# EAGLE library part CONN_M2_MKEY_67P (library GPLIB_CONN)
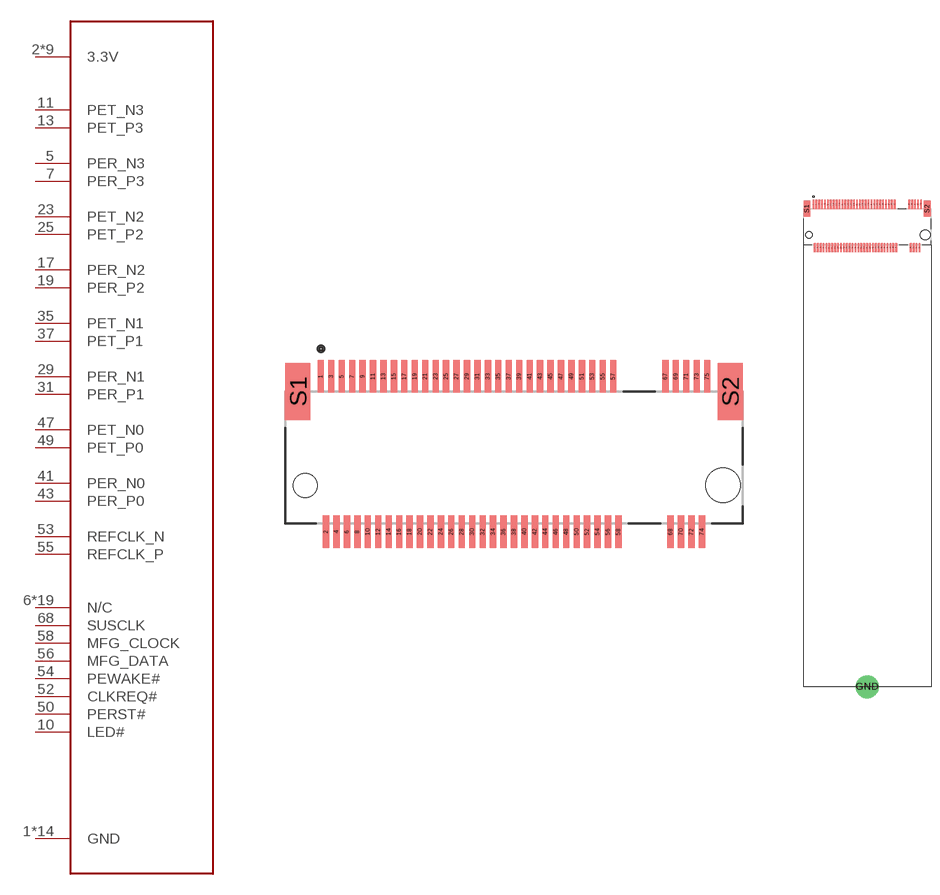
[diagram p42: symbol with the pads of CONN_M2_MKEY_67P_0.5MM_SM_RA_JAE_SM3ZS067U410ABR1000; footprints CONN_M2_MKEY_67P_0.5MM_SM_RA_JAE_SM3ZS067U410ABR1000, CONN_M2_MKEY_67P_0.5MM_SM_RA_JAE_SM3ZS067U410ABR1000_2280]

Designator prefix J

## CONN_M2_MKEY_67P_SM3ZS067U410AMR1000  [CONN_M2_MKEY_67P_0.5MM_SM_RA_JAE_SM3ZS067U410ABR1000]
1  GND  pwr
2  3.3V  pwr
3  GND  pwr
4  3.3V  pwr
5  PER_N3
6  N/C  nc
7  PER_P3
8  N/C  nc
9  GND  pwr
10  LED#
11  PET_N3
12  3.3V  pwr
13  PET_P3
14  3.3V  pwr
15  GND  pwr
16  3.3V  pwr
17  PER_N2
18  3.3V  pwr
19  PER_P2
20  N/C  nc
21  GND  pwr
22  N/C  nc
23  PET_N2
24  N/C  nc
25  PET_P2
26  N/C  nc
27  GND  pwr
28  N/C  nc
29  PER_N1
30  N/C  nc
31  PER_P1
32  N/C  nc
33  GND  pwr
34  N/C  nc
35  PET_N1
36  N/C  nc
37  PET_P1
38  N/C  nc
39  GND  pwr
40  N/C  nc
41  PER_N0
42  N/C  nc
43  PER_P0
44  N/C  nc
45  GND  pwr
46  N/C  nc
47  PET_N0
48  N/C  nc
49  PET_P0
50  PERST#
51  GND  pwr
52  CLKREQ#
53  REFCLK_N
54  PEWAKE#
55  REFCLK_P
56  MFG_DATA
57  GND  pwr
58  MFG_CLOCK
67  N/C  nc
68  SUSCLK
69  N/C  nc
70  3.3V  pwr
71  GND  pwr
72  3.3V  pwr
73  GND  pwr
74  3.3V  pwr
75  GND  pwr

## CONN_M2_MKEY_67P_SM3ZS067U410AMR1000_2280  [CONN_M2_MKEY_67P_0.5MM_SM_RA_JAE_SM3ZS067U410ABR1000_2280]
Pads as for CONN_M2_MKEY_67P_0.5MM_SM_RA_JAE_SM3ZS067U410ABR1000

## CONN_M2_MKEY_67P_SM3ZS067U410AMR1000_2230  [CONN_M2_MKEY_67P_0.5MM_SM_RA_JAE_SM3ZS067U410ABR1000_2230]
Pads as for CONN_M2_MKEY_67P_0.5MM_SM_RA_JAE_SM3ZS067U410ABR1000

## Footprint CONN_M2_MKEY_67P_0.5MM_SM_RA_JAE_SM3ZS067U410ABR1000 (pad centres in mm)
smd 0.3 x 1.55: 1 -9.25,3.475; 2 -9,-3.975; 3 -8.75,3.475; 4 -8.5,-3.975; 5 -8.25,3.475; 6 -8,-3.975; 7 -7.75,3.475; 8 -7.5,-3.975; 9 -7.25,3.475; 10 -7,-3.975; 11 -6.75,3.475; 12 -6.5,-3.975; 13 -6.25,3.475; 14 -6,-3.975; 15 -5.75,3.475; 16 -5.5,-3.975; 17 -5.25,3.475; 18 -5,-3.975; 19 -4.75,3.475; 20 -4.5,-3.975; 21 -4.25,3.475; 22 -4,-3.975; 23 -3.75,3.475; 24 -3.5,-3.975; 25 -3.25,3.475; 26 -3,-3.975; 27 -2.75,3.475; 28 -2.5,-3.975; 29 -2.25,3.475; 30 -2,-3.975; 31 -1.75,3.475; 32 -1.5,-3.975; 33 -1.25,3.475; 34 -1,-3.975; 35 -0.75,3.475; 36 -0.5,-3.975; 37 -0.25,3.475; 38 0,-3.975; 39 0.25,3.475; 40 0.5,-3.975; 41 0.75,3.475; 42 1,-3.975; 43 1.25,3.475; 44 1.5,-3.975; 45 1.75,3.475; 46 2,-3.975; 47 2.25,3.475; 48 2.5,-3.975; 49 2.75,3.475; 50 3,-3.975; 51 3.25,3.475; 52 3.5,-3.975; 53 3.75,3.475; 54 4,-3.975; 55 4.25,3.475; 56 4.5,-3.975; 57 4.75,3.475; 58 5,-3.975; 67 7.25,3.475; 68 7.5,-3.975; 69 7.75,3.475; 70 8,-3.975; 71 8.25,3.475; 72 8.5,-3.975; 73 8.75,3.475; 74 9,-3.975; 75 9.25,3.475
smd 1.2 x 2.75: S1 -10.35,2.75; S2 10.35,2.75
hole 1.15 at -10,-1.75
hole 1.65 at 10,-1.75

## Footprint CONN_M2_MKEY_67P_0.5MM_SM_RA_JAE_SM3ZS067U410ABR1000_2280 (pad centres in mm)
smd 0.3 x 1.55: 1 -9.25,3.475; 2 -9,-3.975; 3 -8.75,3.475; 4 -8.5,-3.975; 5 -8.25,3.475; 6 -8,-3.975; 7 -7.75,3.475; 8 -7.5,-3.975; 9 -7.25,3.475; 10 -7,-3.975; 11 -6.75,3.475; 12 -6.5,-3.975; 13 -6.25,3.475; 14 -6,-3.975; 15 -5.75,3.475; 16 -5.5,-3.975; 17 -5.25,3.475; 18 -5,-3.975; 19 -4.75,3.475; 20 -4.5,-3.975; 21 -4.25,3.475; 22 -4,-3.975; 23 -3.75,3.475; 24 -3.5,-3.975; 25 -3.25,3.475; 26 -3,-3.975; 27 -2.75,3.475; 28 -2.5,-3.975; 29 -2.25,3.475; 30 -2,-3.975; 31 -1.75,3.475; 32 -1.5,-3.975; 33 -1.25,3.475; 34 -1,-3.975; 35 -0.75,3.475; 36 -0.5,-3.975; 37 -0.25,3.475; 38 0,-3.975; 39 0.25,3.475; 40 0.5,-3.975; 41 0.75,3.475; 42 1,-3.975; 43 1.25,3.475; 44 1.5,-3.975; 45 1.75,3.475; 46 2,-3.975; 47 2.25,3.475; 48 2.5,-3.975; 49 2.75,3.475; 50 3,-3.975; 51 3.25,3.475; 52 3.5,-3.975; 53 3.75,3.475; 54 4,-3.975; 55 4.25,3.475; 56 4.5,-3.975; 57 4.75,3.475; 58 5,-3.975; 67 7.25,3.475; 68 7.5,-3.975; 69 7.75,3.475; 70 8,-3.975; 71 8.25,3.475; 72 8.5,-3.975; 73 8.75,3.475; 74 9,-3.975; 75 9.25,3.475
drill 2.2 pad 4: GND 0,-79.58
smd 1.2 x 2.75: S1 -10.35,2.75; S2 10.35,2.75
hole 1.15 at -10,-1.75
hole 1.65 at 10,-1.75

## Footprint CONN_M2_MKEY_67P_0.5MM_SM_RA_JAE_SM3ZS067U410ABR1000_2230 (pad centres in mm)
smd 0.3 x 1.55: 1 -9.25,3.475; 2 -9,-3.975; 3 -8.75,3.475; 4 -8.5,-3.975; 5 -8.25,3.475; 6 -8,-3.975; 7 -7.75,3.475; 8 -7.5,-3.975; 9 -7.25,3.475; 10 -7,-3.975; 11 -6.75,3.475; 12 -6.5,-3.975; 13 -6.25,3.475; 14 -6,-3.975; 15 -5.75,3.475; 16 -5.5,-3.975; 17 -5.25,3.475; 18 -5,-3.975; 19 -4.75,3.475; 20 -4.5,-3.975; 21 -4.25,3.475; 22 -4,-3.975; 23 -3.75,3.475; 24 -3.5,-3.975; 25 -3.25,3.475; 26 -3,-3.975; 27 -2.75,3.475; 28 -2.5,-3.975; 29 -2.25,3.475; 30 -2,-3.975; 31 -1.75,3.475; 32 -1.5,-3.975; 33 -1.25,3.475; 34 -1,-3.975; 35 -0.75,3.475; 36 -0.5,-3.975; 37 -0.25,3.475; 38 0,-3.975; 39 0.25,3.475; 40 0.5,-3.975; 41 0.75,3.475; 42 1,-3.975; 43 1.25,3.475; 44 1.5,-3.975; 45 1.75,3.475; 46 2,-3.975; 47 2.25,3.475; 48 2.5,-3.975; 49 2.75,3.475; 50 3,-3.975; 51 3.25,3.475; 52 3.5,-3.975; 53 3.75,3.475; 54 4,-3.975; 55 4.25,3.475; 56 4.5,-3.975; 57 4.75,3.475; 58 5,-3.975; 67 7.25,3.475; 68 7.5,-3.975; 69 7.75,3.475; 70 8,-3.975; 71 8.25,3.475; 72 8.5,-3.975; 73 8.75,3.475; 74 9,-3.975; 75 9.25,3.475
drill 2.2 pad 4: GND 0,-29.58
smd 1.2 x 2.75: S1 -10.35,2.75; S2 10.35,2.75
hole 1.15 at -10,-1.75
hole 1.65 at 10,-1.75